# Altium schematic symbol library C1005X5R1V105K050BC.SchLib: 1 symbol
Pins are listed as number, name and electrical type; pins without a type are passive.

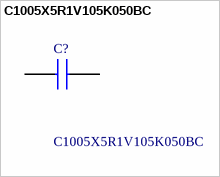
[diagram p0: symbol C1005X5R1V105K050BC]

## C1005X5R1V105K050BC
designator C?
MULTILAYER CERAMIC CHIP CAPACITORS, 1005, Commercial grade, general (Up to 75V); Manufacturer_Name: TDK; Geometry.Height: 0.55mm; Manufacturer_Part_Number: C1005X5R1V105K050BC; Mouser Part Number: 810-C1005X5R1V105K; Mouser Price/Stock: https://www.mouser.co.uk/ProductDetail/TDK/C1005X5R1V105K050BC?qs=dfay7wIA1uGr1NSDQs%2Ftnw%3D%3D; Arrow Part Number: C1005X5R1V105K050BC; Arrow Price/Stock: https://www.arrow.com/en/products/c1005x5r1v105k050bc/tdk?region=nac; Datasheet Link: https://product.tdk.com/info/en/catalog/datasheets/mlcc_commercial_midvoltage_en.pdf
footprint CAPC1005X55N
pins: 1, 2